# Altium footprint library SP3222EUEYLTR.PcbLib: 1 footprints
Each footprint in its own frame and in the unit in brackets; x right, y up, seen from the top. Pads: shape width x height; smd on the part's side, far side on the other; paste and mask are expansions set on the pad; w line width, h text height; cw(c..) or ccw(c..) is an arc to the next point about the centre after c.
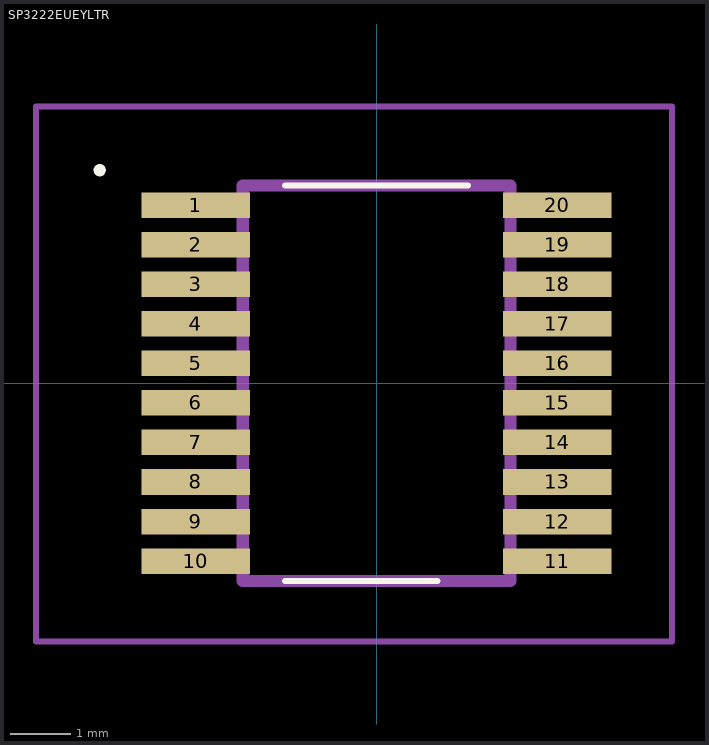
[diagram p0: the footprint, top view; thin cyan lines are the x and y axes]

## SP3222EUEYLTR [mm]
pads (20):
  rect 1.78x0.42 smd: 1(-2.97,2.925) 2(-2.97,2.275) 3(-2.97,1.625) 4(-2.97,0.975) 5(-2.97,0.325) 6(-2.97,-0.325) 7(-2.97,-0.975) 8(-2.97,-1.625) 9(-2.97,-2.275) 10(-2.97,-2.925) 11(2.97,-2.925) 12(2.97,-2.275) 13(2.97,-1.625) 14(2.97,-0.975) 15(2.97,-0.325) 16(2.97,0.325) 17(2.97,0.975) 18(2.97,1.625) 19(2.97,2.275) 20(2.97,2.925)
Top Overlay:
  lines w0.1: -1.5,-3.25 1,-3.25 ; -1.5,3.25 1.5,3.25 ; -4.6,3.5 cw(c-4.55,3.5) -4.5,3.5 ; -4.6,3.5 -4.6,3.5 ; -4.6,3.5 ccw(c-4.55,3.5) -4.5,3.5 ; -4.5,3.5 -4.5,3.5
Mechanical 15:
  lines w0.2: -2.2,-3.25 2.2,-3.25 2.2,3.25 -2.2,3.25 -2.2,-3.25
Mechanical 20:
  lines w0.1: -5.6,-4.25 4.86,-4.25 4.86,4.55 -5.6,4.55 -5.6,-4.25